# Altium schematic symbol library Sheye-magnetic.SchLib: 57 symbols
Pins are listed as number, name and electrical type; pins without a type are passive.

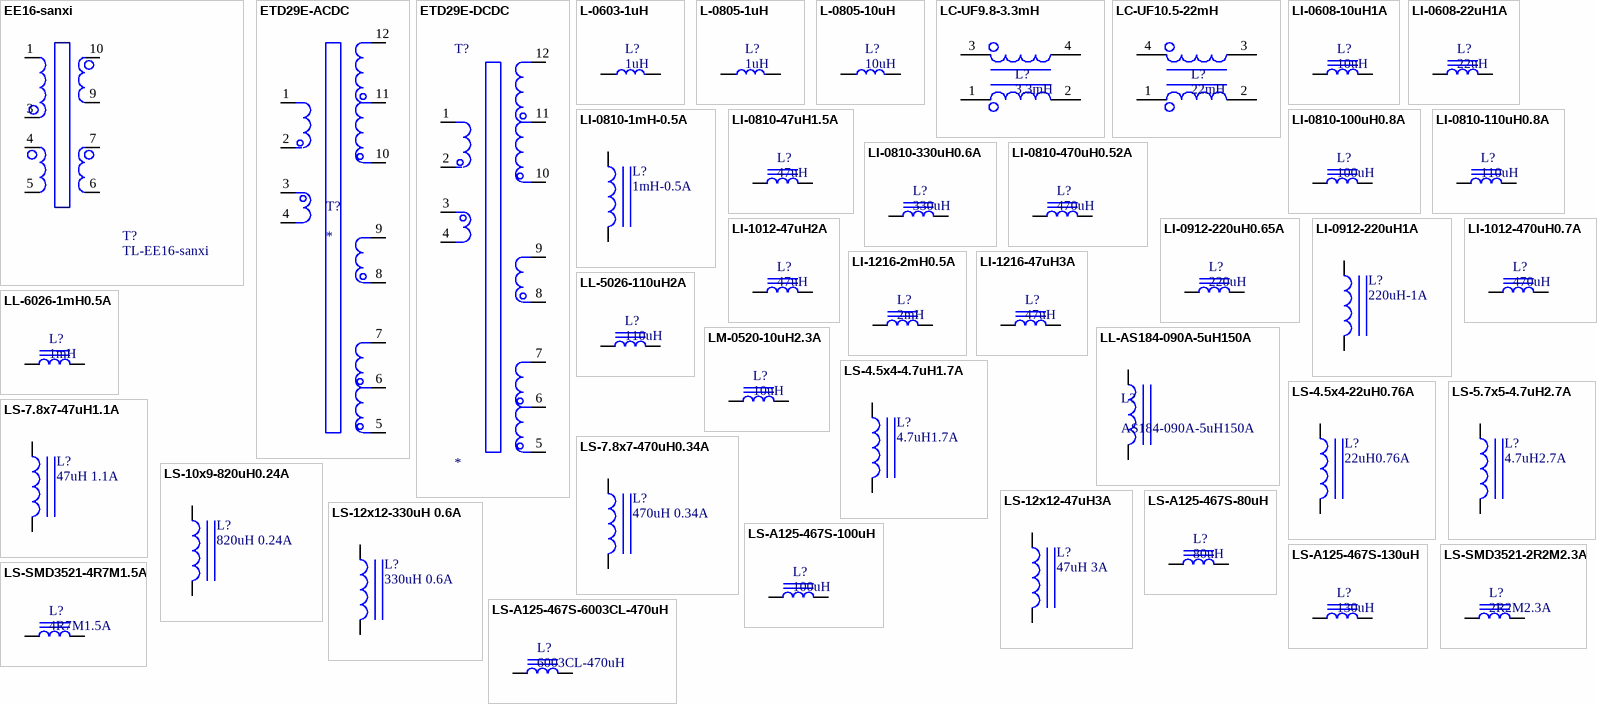
[diagram p0: symbols EE16-sanxi to LS-SMD3521-4R7M1.5A]

## EE16-sanxi
designator T?, comment TL-EE16-sanxi
工频变压器-插针式; 规格型号|UNIQUEID: 一拖八变压器; 货品编码: 样品无编码; 供应商: *; 生产商: *; 备注: *
footprint TL-EE16 - SANXI
pins: 1, 3, 4, 5, 6, 7, 9, 10

## ETD29E-ACDC
designator T?
工频变压器-插针式; 货品编码: 351016; 规格型号: ETD29E-ACDC(图号：IDCE-6003CL)
footprint ETD29E
pins: 1, 2, 3, 4, 5, 6, 7  , 8  , 9  , 10, 11, 12

## ETD29E-DCDC
designator T?
工频变压器-插针式; 规格型号: ETD29E-DCDC(4815); 货品编码: 351012; 生产商: *; 供应商: *; 备注: *
footprint ETD29E
pins: 1, 2, 3, 4, 5, 6, 7  , 8  , 9  , 10, 11, 12

## L-0603-1uH
designator L?, comment 1uH
贴片电感-层叠; 规格型号: L0603-1uH; 货品编码|UNIQUEID: 无样品无编码; 生产商: *; 供应商: *; 备注: *
footprint L0603 (Footprint not found)
pins: 1, 2

## L-0805-1uH
designator L?, comment 1uH
贴片电感-层叠; 规格型号: L0805-1uH; 货品编码: 351025; 生产商: *; 供应商: *; 备注: *
footprint L0805
pins: 1, 2

## L-0805-10uH
designator L?, comment 10uH
贴片电感-层叠; 规格型号: L0805-10uH; 货品编码: 351002; 生产商: *; 供应商: *; 备注: *
footprint L0805
pins: 1, 2

## LC-UF9.8-3.3mH
designator L?, comment 3.3mH
插件电感-卧式共模; 规格型号: UF9.8-3.3mK; 货品编码: 351008; 生产商: *; 供应商: *; 备注: *
footprint LC-UF9.8 (Footprint not found)
pins: 1, 2, 3, 4

## LC-UF10.5-22mH
designator L?, comment 22mH
插件电感-立式共模; 规格型号: UF10.5-22mH; 货品编码: 351053; 生产商: *; 供应商: *; 备注: *
footprint LC-UF10.5
pins: 1, 2, 3, 4

## LI-0608-10uH1A
designator L?, comment 10uH
插件电感-工形; 规格型号: LI-0608-10uH1A; 货品编码|UNIQUEID: 无样品无编码; 生产商: *; 供应商: *; 备注: *
footprint LI-0608
pins: 1, 2

## LI-0608-22uH1A
designator L?, comment 22uH
插件电感-工形; 规格型号: LI-0608-22uH1A; 货品编码: 351004; 生产商: *; 供应商: *; 备注: *
footprint LI-0608
pins: 1, 2

## LI-0810-1mH-0.5A
designator L?, comment 1mH-0.5A
工型电感-工形; 规格型号: LI-0810-1mh-0.5A; 货品编码|UNIQUEID: 无样品无编码; 生产商: *; 供应商: *; 备注: *
footprint LI-0810
footprint LI-0810
pins: 1, 2

## LI-0810-47uH1.5A
designator L?, comment 47uH
插件电感-工形; 规格型号: LI-0810-47uH1.5A; 货品编码: 351021; 生产商: *; 供应商: *; 备注: *
footprint LI-0810
pins: 1, 2

## LI-0810-100uH0.8A
designator L?, comment 100uH
插件电感-工形; 规格型号: LI-0810-100uH0.8A; 货品编码: 351007; 生产商: *; 供应商: *; 备注: *
footprint LI-0810
pins: 1, 2

## LI-0810-110uH0.8A
designator L?, comment 110uH
插件电感-工形; 规格型号: LI-0810-110uH0.8A; 货品编码: 351003; 生产商: *; 供应商: *; 备注: *
footprint LI-0810
pins: 1, 2

## LI-0810-330uH0.6A
designator L?, comment 330uH
插件电感-工形; 规格型号: LI-0810-330uH0.6A; 货品编码: 351005; 生产商: *; 供应商: *; 备注: *
footprint LI-0810
pins: 1, 2

## LI-0810-470uH0.52A
designator L?, comment 470uH
插件电感-工形; 规格型号: LI-0810-470uH0.52A; 货品编码: 351006; 生产商: *; 供应商: *; 备注: *
footprint LI-0810
pins: 1, 2

## LI-0912-220uH0.65A
designator L?, comment 220uH
插件电感-工形; 规格型号: LI-0912-220uH0.65A; 货品编码: 351034; 生产商: *; 供应商: *; 备注: *
footprint LI-0912
pins: 1, 2

## LI-0912-220uH1A
designator L?, comment 220uH-1A
工型电感-工形; 规格型号: LI-0912-220uH1A; 货品编码|UNIQUEID: 无样品无编码; 生产商: *; 供应商: *; 备注: *
footprint LI-0912
pins: 1, 2

## LI-1012-47uH2A
designator L?, comment 47uH
插件电感-工形; 规格型号: LI-1012-47uH2A; 货品编码: 351010; 生产商: *; 供应商: *; 备注: *
footprint LI-1012
pins: 1, 2

## LI-1012-470uH0.7A
designator L?, comment 470uH
插件电感-工形; 规格型号: LI-1012-470uH0.7A; 货品编码: 351011; 生产商: *; 供应商: *; 备注: *
footprint LI-1012
pins: 1, 2

## LI-1216-2mH0.5A
designator L?, comment 2mH
插件电感-工形; 规格型号: LI-1216-2mH0.5A; 货品编码: 351009; 生产商: *; 供应商: *; 备注: *
footprint LI-1216 (Footprint not found)
pins: 1, 2

## LI-1216-47uH3A
designator L?, comment 47uH
插件电感-工形; 规格型号: LI-1216-47uH3A; 货品编码: 351023; 生产商: *; 供应商: *; 备注: *
footprint LI-1216
pins: 1, 2

## LL-5026-110uH2A
designator L?, comment 110uH
插件电感-磁环; 规格型号: LL-5026-110uH2A; 货品编码: 351013; 生产商: *; 供应商: *; 备注: *
footprint LL-5026 (Footprint not found)
pins: 1, 2

## LL-6026-1mH0.5A
designator L?, comment 1mH
插件电感-磁环; 规格型号: LL-6026-1mH0.5A; 货品编码: 351018; 生产商: *; 供应商: *; 备注: *
footprint LL-6026 (Footprint not found)
pins: 1, 2

## LL-AS184-090A-5uH150A
designator L?, comment AS184-090A-5uH150A
插件电感-磁环; 规格型号|UNIQUEI: 东磁铁硅铝磁环 AS184-090A; 货品编码|UNIQUEID: 无样品无编码; 备注: *; 供应商: *
footprint LL-AS184-090A
footprint LL-AS184-090A
pins: 1, 1, 1, 1, 1, 1, 1, 1, 1, 1, 2, 2, 2, 2, 2, 2, 2, 2, 2, 2

## LM-0520-10uH2.3A
designator L?, comment 10uH
插件电感-立式磁棒; 规格型号: LM-0520-10uH2.3A; 货品编码: 351029; 生产商: *; 供应商: *; 备注: *
footprint LM-0520 (Footprint not found)
pins: 1, 2

## LS-4.5x4-4.7uH1.7A
designator L?, comment 4.7uH1.7A
贴片功率电感; 规格型号: TS-SMD4532 ¨C 4R7M; 货品编码|UNIQUEID: 无样品无编码; 生产商: *; 供应商: *; 备注: *
footprint LSMD_4.5x4 (Footprint not found)
pins: 1, 2

## LS-4.5x4-22uH0.76A
designator L?, comment 22uH0.76A
贴片功率电感; 规格型号: TS-SMD4532 ¨C 220M; 货品编码: 351045; 生产商: *; 供应商: *; 备注: *
footprint LSMD_4.5x4 (Footprint not found)
pins: 1, 2

## LS-5.7x5-4.7uH2.7A
designator L?, comment 4.7uH2.7A
贴片功率电感; 规格型号: TS-LQH2220 ¨C 4R7M; 货品编码: 351044; 生产商: *; 供应商: *; 备注: *
footprint LSMD_5.7x5 (Footprint not found)
pins: 1, 2

## LS-7.8x7-47uH1.1A
designator L?, comment 47uH 1.1A
贴片功率电感; 规格型号: SMD7850 ¨C 470K; 货品编码: 351039; 生产商: *; 供应商: *; 备注: *
footprint LSMD_7.8x7 (SMD7850)
pins: 1, 2

## LS-7.8x7-470uH0.34A
designator L?, comment 470uH 0.34A
贴片功率电感; 规格型号: SMD7850 ¨C 471K; 货品编码|UNIQUEID: 无样品无编码; 生产商: *; 供应商: *; 备注: *
footprint LSMD_7.8x7 (SMD7850)
pins: 1, 2

## LS-10x9-820uH0.24A
designator L?, comment 820uH 0.24A
贴片功率电感; 规格型号: SMD1054 ¨C 821K; 货品编码|UNIQUEID: 无样品无编码; 生产商: *; 供应商: *; 备注: *
footprint LSMD_10x9
pins: 1, 2

## LS-12x12-47uH3A
designator L?, comment 47uH 3A
贴片功率电感; 规格型号: SMD12x12-47uH3A; 货品编码: 351042; 生产商: *; 供应商: *; 备注: *
footprint LSMD_12x12
pins: 1, 2

## LS-12x12-330uH 0.6A
designator L?, comment 330uH 0.6A
贴片功率电感; 规格型号: SMD12x12-330uH 0.6A; 货品编码: 351040; 生产商: *; 供应商: *; 备注: *
footprint LSMD_12x12
pins: 1, 2

## LS-A125-467S-80uH
designator L?, comment 80uH
插件电感-功率; 规格型号: LS-A125-467S-80uH; 货品编码: 351028; 生产商: *; 供应商: *; 备注: *
footprint A125-467S-(5+5) (Footprint not found)
pins: 1, 2

## LS-A125-467S-100uH
designator L?, comment 100uH
插件电感-功率; 规格型号: LS-A125-467S-100uH; 货品编码: 351001; 生产商: *; 供应商: *; 备注: *
footprint A125-467S-(5+5) (Footprint not found)
pins: 1, 2

## LS-A125-467S-130uH
designator L?, comment 130uH
插件电感-功率; 规格型号: LS-A125-467S-130uH; 货品编码: 351032; 生产商: *; 供应商: *; 备注: *
footprint A125-467S-(5+5) (Footprint not found)
pins: 1, 2

## LS-A125-467S-6003CL-470uH
designator L?, comment 6003CL-470uH
插件电感-功率; 规格型号: LS-A125-467S-6003CL-470uH; 货品编码: 351017; 生产商: *; 供应商: *; 备注: *
footprint A125-467S-(4+4) (Footprint not found)
pins: 1, 2

## LS-SMD3521-2R2M2.3A
designator L?, comment 2R2M2.3A
贴片功率电感; 规格型号: 2.2uH_20%_2.3A_3.5x2.1; 货品编码|UNIQUEID: 无样品无编码; 生产商: *; 供应商: *; 备注: *
footprint LSMD3521
pins: 1, 2

## LS-SMD3521-4R7M1.5A
designator L?, comment 4R7M1.5A
贴片功率电感; 规格型号: 4.7uH_20%_1.5A_3.5x2.1; 货品编码|UNIQUEID: 无样品无编码; 生产商: *; 供应商: *; 备注: *
footprint LSMD3521
pins: 1, 2

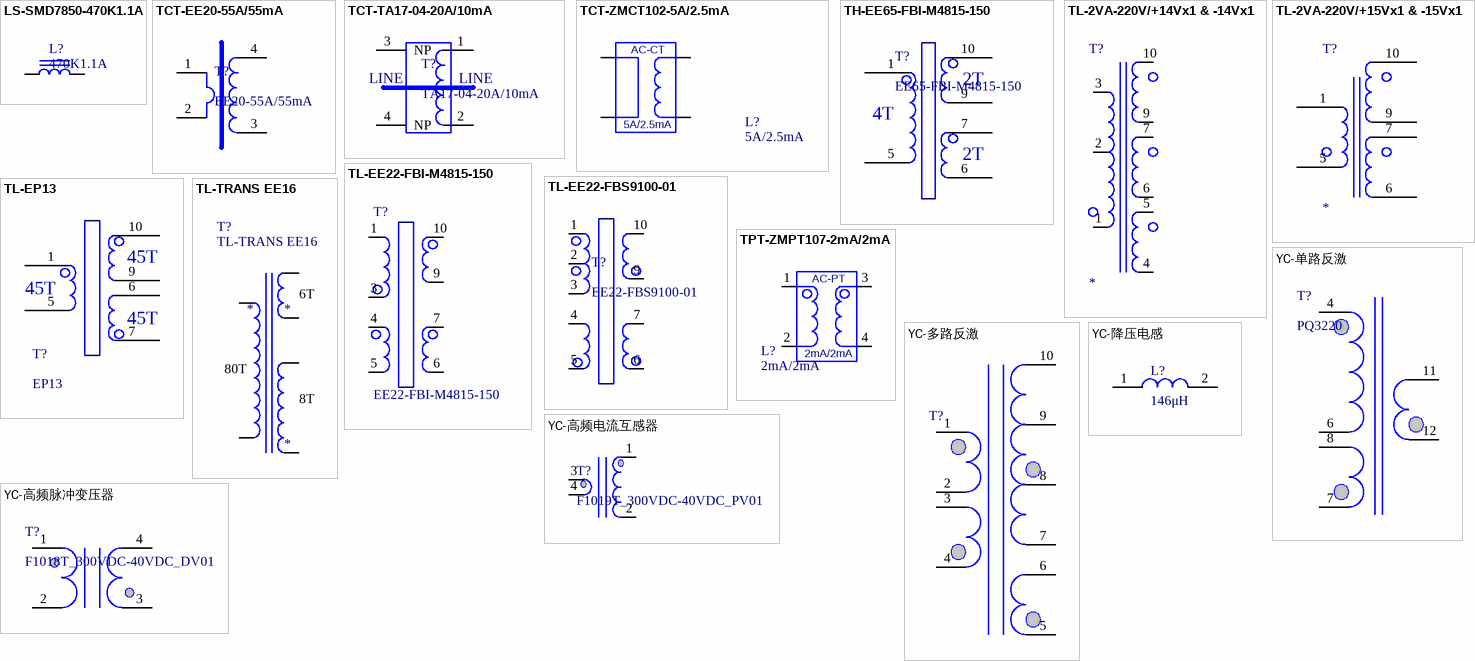
[diagram p1: symbols LS-SMD7850-470K1.1A to YC-高频脉冲变压器]

## LS-SMD7850-470K1.1A
designator L?, comment 470K1.1A
贴片功率电感; 规格型号: 47uH_10%_1.1A_7.8x5.0; 货品编码|UNIQUEID: 无样品无编码; 生产商: *; 供应商: *; 备注: *
footprint LSMD7850
pins: 1, 2

## TCT-EE20-55A/55mA
designator T?, comment EE20-55A/55mA
微型精密电流互感器; 备注: 1匝 10mm2  5uH ;1000匝 线径0.2mm 46mH; 规格型号|UNIQUEI: 锰锌铁氧体磁芯 EE20 1000:1; 货品编码: 351049; 供应商: *
footprint TCT-EE20
footprint TCT-EE20
pins: 1, 2, 3, 4

## TCT-TA17-04-20A/10mA
designator T?, comment TA17-04-20A/10mA
微型精密电流互感器; 备注: 2000:1 输入0-20A输出0-10mA; 规格型号: A17-04; 生产商|UNI: 北京耀华德昌电子有限公司; 供应商|UNI: 北京耀华德昌电子有限公司
footprint TCT-TA17-04
pins: 1, 2, 3 NP, 4 NP
text: LINE

## TCT-ZMCT102-5A/2.5mA
designator L?, comment 5A/2.5mA
微型精密电流互感器; 规格型号: ZMCT102; 货品编码: 351034; 生产商: *; 供应商: *; 备注: *
footprint TCT-ZMCT102 (Footprint not found)
pins: 1, 2
text: AC-CT

## TH-EE65-FBI-M4815-150
designator T?, comment EE65-FBI-M4815-150
高频变压器插针式; 备注: 2匝 10mm2 30uH ;4匝 10mm2 120uH; 规格型号: EE65-立式 锰锌铁氧体磁芯 FBI-M4518-150高频变压器; 货品编码: 351048; 供应商: *
footprint TH-EE65
pins: 1, 5, 6, 7, 9, 10
text: 2T; 4T

## TL-2VA-220V/+14Vx1 & -14Vx1
designator T?
工频变压器-插针式; 规格型号: TL-2VA-220V/+14Vx1 & -14Vx1(单体板); 货品编码: 351026; 生产商: *; 供应商: *; 备注: *
footprint TL-EI14X17_5/4 (Footprint not found)
pins: 1, 2, 3, 4, 5, 6, 7, 9, 10

## TL-2VA-220V/+15Vx1 & -15Vx1
designator T?
工频变压器-插针式; 生产商: 351014; 规格型号: TL-2VA-220V/+15Vx1 & -15Vx1（FOD）; 供应商: *; 备注: *; 货品编码: *
footprint TL-EI14X17_2/4 (Footprint not found)
pins: 1, 5, 6, 7, 9, 10

## TL-EE22-FBI-M4815-150
designator T?, comment EE22-FBI-M4815-150
工频变压器插针式; 备注|UNIQUE: FBI-15150辅助电源板-变压器-48v 220v兼容; 货品编码: 351051; 供应商: *; 生产商: *; 规格型号: *
footprint TL-EE22
pins: 1, 3, 4, 5, 6, 7, 9, 10

## TL-EE22-FBS9100-01
designator T?, comment EE22-FBS9100-01
高频变压器插针式; 规格型号|UNIQUEI: EE22-FBS9100-01辅助电源变压器; 备注: AC220V转+/-12V。+12V/2A;-12V/0.3A; 货品编码: 351054; 生产商: *; 供应商: *
footprint TL-EE22
pins: 1, 2, 3, 4, 5, 6, 7, 9, 10

## TL-EP13
designator T?, comment EP13
脉冲变压器插针式; 备注: 45匝 直径0.31mm 10mH; 规格型号: 东磁锰锌铁氧体功率型喷漆磁环 EP13; 货品编码: 351047; 供应商: *
footprint TL-EP13
pins: 1, 5, 6, 7, 9, 10
text: 45T

## TL-TRANS EE16
designator T?
工频变压器-插针式; 规格型号: PUE变压器AC220/DC5V1A; 货品编码: 样品无编码; 供应商: *; 生产商: *; 备注: *
footprint TL-EE16
pins: 1, 5, 6, 7, 9, 10
text: 6T; 80T; 8T

## TPT-ZMPT107-2mA/2mA
designator L?, comment 2mA/2mA
微型精密电压互感器; 规格型号: ZMPT107; 货品编码: 351037; 生产商: *; 供应商: *; 备注: *
footprint TPT-ZMPT107
pins: 1, 2, 3, 4
text: AC-PT

## YC-单路反激
designator T?, comment PQ3220
footprint T-PQ3220
pins: 4, 6, 7, 8, 11, 12

## YC-多路反激
designator T?, comment F1017T_300VDC-40VDC_PV01  (value not drawn)
反激变压器; 货品编码: 351116; 规格型号|UNIQU: 反激变压器，图号：F1017T_300VDC-40VDC_PV01; 备注: *; 生产商: *; 供应商: *
footprint T-DC/DC/EER28*34*11.4
pins: 1, 2, 3, 4, 5, 6, 7, 8, 9, 10

## YC-降压电感
designator L?, comment 146μH
货品编码: 351119; 规格型号|UNIQUE: 降压电感，图号：F1002L_300VDC-40VDC_PC01; 备注: *; 供应商: *; 生产商: *
footprint L-DC/DC-146uH
pins: 1, 2

## YC-高频电流互感器
designator T?, comment F1019T_300VDC-40VDC_PV01
高频电流互感器; 货品编码: 351118; 规格型号|UNI: 高频电流互感器，图号：F1019T_300VDC-40VDC_PV01; 备注: *; 供应商: *; 生产商: *
footprint T-H200A/300:1
pins: 1, 2, 3, 4

## YC-高频脉冲变压器
designator T?, comment F1018T_300VDC-40VDC_DV01
脉冲变压器; 货品编码: 351117; 规格型号|UNIQU: 脉冲变压器，图号：F1018T_300VDC-40VDC_DV01; 备注: *; 生产商: *
footprint T-DC/DC/12V-25V
pins: 1, 2, 3, 4